# Altium schematic symbol library CAP_0805.SchLib: 1 symbol
Pins are listed as number, name and electrical type; pins without a type are passive.

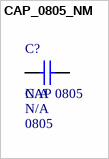
[diagram p0: symbol CAP_0805_NM]

## CAP_0805_NM
designator C?, comment CAP 0805  Package / Case: 0805
CAP, size 0805, NM, N/A; Packaging: Tape and Reel; Supplier 1: N/A; Supplier 1 Part Number: N/A; Supplier 1 URL: N/A; Tolerance: N/A; ComponentLink1Description: Datasheet; ComponentLink1URL: N/A; Mount: SMD/SMT; Operating Temperature Max: + 85 C; Operating Temperature Min: - 40 C; Voltage Rating DC: N/A; Capacitance: N/A
footprint CAP_0805
pins: 1, 2